# Altium footprint library CLCC.PcbLib: 1 footprints
Each footprint in its own frame and in the unit in brackets; x right, y up, seen from the top. Pads: shape width x height; smd on the part's side, far side on the other; paste and mask are expansions set on the pad; w line width, h text height; cw(c..) or ccw(c..) is an arc to the next point about the centre after c.
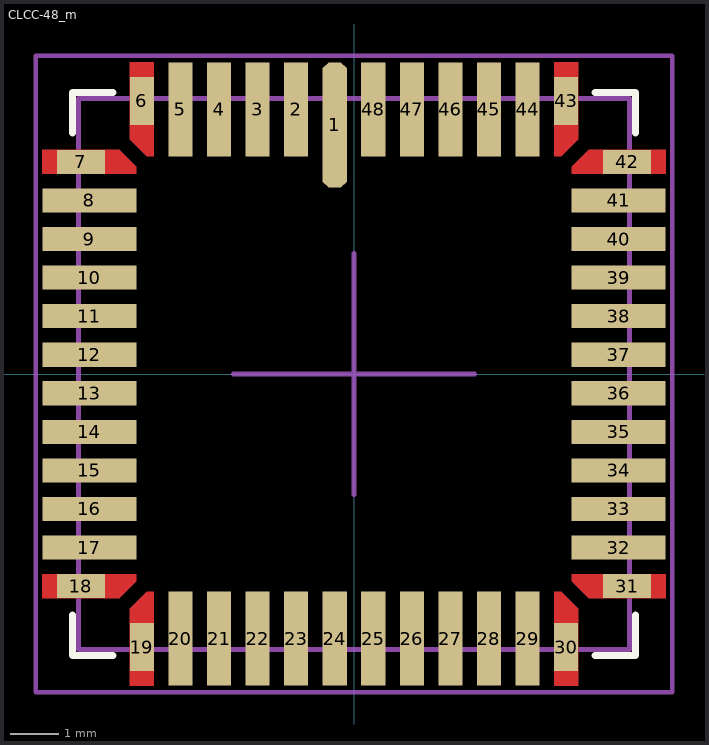
[diagram p0: the footprint, top view; thin cyan lines are the x and y axes]

## CLCC-48_m [mm] "CLCC, 48-Leads, Body 11.43x11.43x2.3mm, Pitch 0.8mm, IPC Low Density"
height 2.3
pads (48):
  oct 0.5x2.6 smd paste-0.025 mask+0.075: 1(-0.4,5.165)
  rect 0.5x1.95 smd paste-0.025 mask+0.075: 2(-1.2,5.49) 3(-2,5.49) 4(-2.8,5.49) 5(-3.6,5.49) 20(-3.6,-5.49) 21(-2.8,-5.49) 22(-2,-5.49) 23(-1.2,-5.49) 24(-0.4,-5.49) 25(0.4,-5.49) 26(1.2,-5.49) 27(2,-5.49) 28(2.8,-5.49) 29(3.6,-5.49) 44(3.6,5.49) 45(2.8,5.49) 46(2,5.49) 47(1.2,5.49) 48(0.4,5.49)
  rect 0.5x1 smd paste-0.025 mask+0.075: 6(-4.4,5.665) 19(-4.4,-5.665) 30(4.4,-5.665) 43(4.4,5.665)
  rect 1x0.5 smd paste-0.025 mask+0.075: 7(-5.665,4.4) 18(-5.665,-4.4) 31(5.665,-4.4) 42(5.665,4.4)
  rect 1.95x0.5 smd paste-0.025 mask+0.075: 8(-5.49,3.6) 9(-5.49,2.8) 10(-5.49,2) 11(-5.49,1.2) 12(-5.49,0.4) 13(-5.49,-0.4) 14(-5.49,-1.2) 15(-5.49,-2) 16(-5.49,-2.8) 17(-5.49,-3.6) 32(5.49,-3.6) 33(5.49,-2.8) 34(5.49,-2) 35(5.49,-1.2) 36(5.49,-0.4) 37(5.49,0.4) 38(5.49,1.2) 39(5.49,2) 40(5.49,2.8) 41(5.49,3.6)
Top Layer:
  region: 4.15,6.465 4.15,4.515 4.3,4.515 4.65,4.865 4.65,6.465
  region: 6.465,4.155 4.515,4.15 4.515,4.3 4.865,4.65 6.465,4.65
  region: 6.465,-4.15 4.515,-4.15 4.515,-4.3 4.865,-4.65 6.465,-4.65
  region: 4.155,-6.465 4.15,-4.515 4.3,-4.515 4.65,-4.865 4.65,-6.465
  region: -4.15,-6.465 -4.15,-4.515 -4.3,-4.515 -4.65,-4.865 -4.65,-6.465
  region: -6.465,-4.155 -4.515,-4.15 -4.515,-4.3 -4.865,-4.65 -6.465,-4.65
  region: -4.155,6.465 -4.15,4.515 -4.3,4.515 -4.65,4.865 -4.65,6.465
  region: -6.465,4.15 -4.515,4.15 -4.515,4.3 -4.865,4.65 -6.465,4.65
Top Overlay:
  lines w0.15: -5.84,-5 -5.84,-5.84 -5,-5.84 ; -5.84,5 -5.84,5.84 -5,5.84 ; 5,-5.84 5.84,-5.84 5.84,-5 ; 5,5.84 5.84,5.84 5.84,5
Mechanical 13:
  lines w0.1: -5.715,-5.715 -5.715,5.715 5.715,5.715 5.715,-5.715 -5.715,-5.715
Mechanical 15:
  lines w0.1: -2.5,0 2.5,0 ; 0,-2.5 0,2.5 ; -6.6,-6.6 6.6,-6.6 6.6,6.6 -6.6,6.6 -6.6,-6.6
3D body: height 2.3, standoff 0, extent -5.715,-5.715 5.715,5.715